# Altium footprint library TQFP-64.PcbLib: 1 footprints
Each footprint in its own frame and in the unit in brackets; x right, y up, seen from the top. Pads: shape width x height; smd on the part's side, far side on the other; paste and mask are expansions set on the pad; w line width, h text height; cw(c..) or ccw(c..) is an arc to the next point about the centre after c.
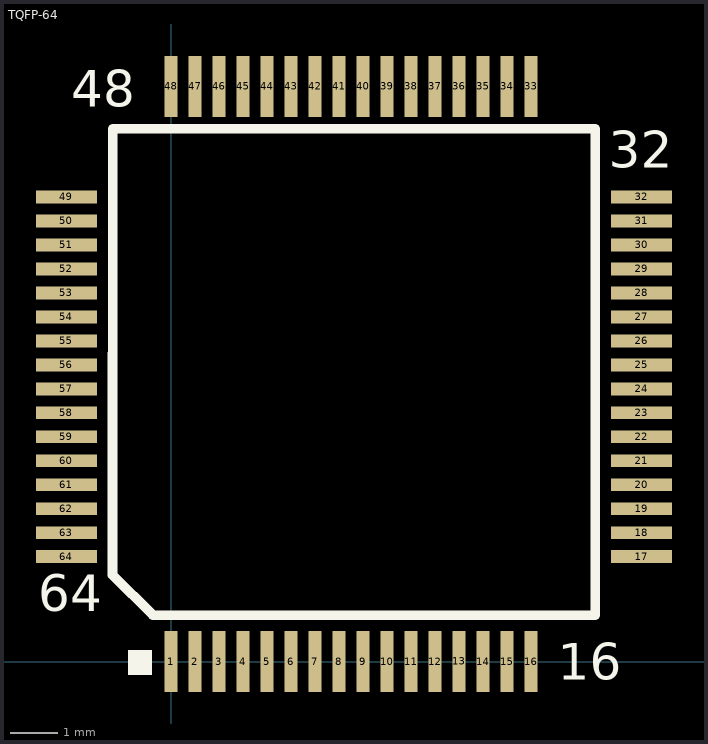
[diagram p0: the footprint, top view; thin cyan lines are the x and y axes]

## TQFP-64 [mm]
height 2.032
pads (64):
  rect 0.27x1.27 smd: 1(0,0) 2(0.5,0) 3(1,0) 4(1.5,0) 5(2,0) 6(2.5,0) 7(3,0) 8(3.5,0) 9(4,0) 10(4.5,0) 11(5,0) 12(5.5,0) 13(6,0.003) 14(6.5,0) 15(7,0) 16(7.5,-0.004) 33(7.5,11.988) 34(7,11.988) 35(6.5,11.988) 36(6,11.988) 37(5.5,11.988) 38(5,11.988) 39(4.5,11.988) 40(4,11.988) 41(3.5,11.988) 42(3,11.988) 43(2.5,11.988) 44(2,11.988) 45(1.5,11.988) 46(1,11.988) 47(0.5,11.988) 48(0,11.988)
  rect 1.27x0.27 smd: 17(9.804,2.184) 18(9.804,2.684) 19(9.804,3.184) 20(9.804,3.684) 21(9.804,4.184) 22(9.804,4.684) 23(9.804,5.184) 24(9.804,5.684) 25(9.804,6.184) 26(9.804,6.684) 27(9.804,7.184) 28(9.804,7.684) 29(9.804,8.184) 30(9.804,8.684) 31(9.804,9.184) 32(9.804,9.684) 49(-2.184,9.684) 50(-2.184,9.184) 51(-2.184,8.684) 52(-2.184,8.184) 53(-2.184,7.684) 54(-2.184,7.184) 55(-2.184,6.684) 56(-2.184,6.184) 57(-2.184,5.684) 58(-2.184,5.184) 59(-2.184,4.684) 60(-2.184,4.184) 61(-2.184,3.684) 62(-2.184,3.184) 63(-2.184,2.684) 64(-2.184,2.184)
TopOverlay:
  rectangle: -0.901,-0.283 -0.403,0.242
  lines w0.2: -1.222,1.803 -1.221,11.104 8.838,11.104 ; -1.219,1.803 -0.381,0.965 8.839,0.965 8.839,10.237
  lines w0.203: 8.839,10.237 8.839,11.102
  text "64" at -2.766,1.044 h0.76
  text "48" at -2.084,11.566 h0.76
  text "32" at 9.121,10.289 h0.76
  text "16" at 8.054,-0.378 h0.76
  text "." at -0.127,1.422 h1.52
3D body: height 1.02, standoff 0.02, extent -2.035,0.151 9.546,11.726